# Altium footprint library MOUNTING_HOLE.PcbLib: 6 footprints
Each footprint in its own frame and in the unit in brackets; x right, y up, seen from the top. Pads: shape width x height; smd on the part's side, far side on the other; paste and mask are expansions set on the pad; w line width, h text height; cw(c..) or ccw(c..) is an arc to the next point about the centre after c.
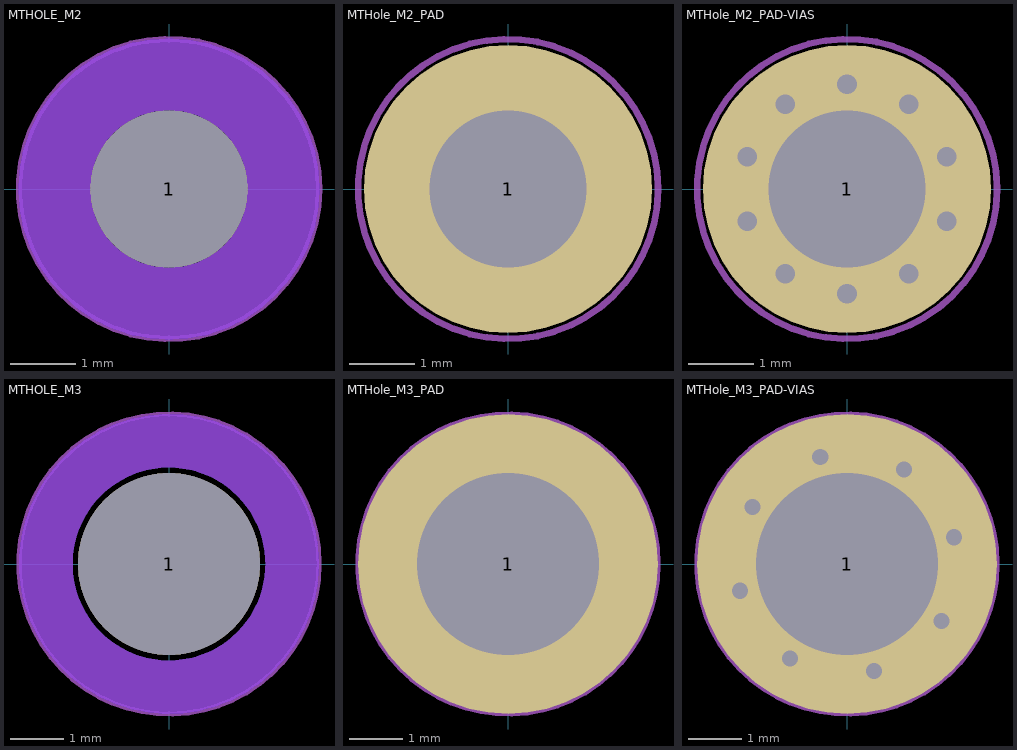
[diagram p0: the footprints below, top view; thin cyan lines are the x and y axes]

## MTHOLE_M2 [mm]
pads (1):
  round 2.4 hole 2.4 unplated: 1(0,0)
Top Layer keep-out:
  circle w1.1: c0,0 r1.75
Bottom Layer keep-out:
  circle w1.1: c0,0 r1.75
Mechanical 13:
  circle w0.1: c0,0 r2.29
Mechanical 15:
  circle w0.05: c0,0 r2.29
  lines w0.05: -0.3,0 0.3,0 ; 0,-0.3 0,0.3

## MTHole_M2_PAD [mm]
pads (1):
  round 4.4 hole 2.4: 1(0,0)
Mechanical 13:
  circle w0.1: c0,0 r2.29
Mechanical 15:
  circle w0.05: c0,0 r2.29
  lines w0.05: -0.3,0 0.3,0 ; 0,-0.3 0,0.3

## MTHole_M2_PAD-VIAS [mm]
pads (1):
  round 4.4 hole 2.4: 1(0,0)
via -0.94,-1.294 diameter 0.6 hole 0.3
via -1.522,-0.494 diameter 0.6 hole 0.3
via -1.522,0.494 diameter 0.6 hole 0.3
via -0.94,1.294 diameter 0.6 hole 0.3
via 0,1.6 diameter 0.6 hole 0.3
via 0.94,1.294 diameter 0.6 hole 0.3
via 1.522,0.494 diameter 0.6 hole 0.3
via 1.522,-0.494 diameter 0.6 hole 0.3
via 0.94,-1.294 diameter 0.6 hole 0.3
via 0,-1.6 diameter 0.6 hole 0.3
Mechanical 13:
  circle w0.1: c0,0 r2.29
Mechanical 15:
  circle w0.05: c0,0 r2.29
  lines w0.05: -0.3,0 0.3,0 ; 0,-0.3 0,0.3

## MTHOLE_M3 [mm]
pads (1):
  round 3.4 hole 3.4 unplated: 1(0,0)
Top Layer keep-out:
  circle w1: c0,0 r2.3
Bottom Layer keep-out:
  circle w1: c0,0 r2.3
Mechanical 13:
  circle w0.1: c0,0 r2.8
Mechanical 15:
  circle w0.05: c0,0 r2.8
  lines w0.05: -0.3,0 0.3,0 ; 0,-0.3 0,0.3

## MTHole_M3_PAD [mm] "Mounting hole M3."
pads (1):
  round 5.6 hole 3.4: 1(0,0)
Mechanical 13:
  circle w0.1: c0,0 r2.8
Mechanical 15:
  circle w0.05: c0,0 r2.8
  lines w0.05: -0.3,0 0.3,0 ; 0,-0.3 0,0.3

## MTHole_M3_PAD-VIAS [mm] "Mounting hole M3."
pads (1):
  round 5.6 hole 3.4: 1(0,0)
via 1.768,-1.061 diameter 0.6 hole 0.3
via 0.5,-2 diameter 0.6 hole 0.3
via -1.061,-1.768 diameter 0.6 hole 0.3
via -2,-0.5 diameter 0.6 hole 0.3
via -1.768,1.061 diameter 0.6 hole 0.3
via -0.5,2 diameter 0.6 hole 0.3
via 1.061,1.768 diameter 0.6 hole 0.3
via 2,0.5 diameter 0.6 hole 0.3
Mechanical 13:
  circle w0.1: c0,0 r2.8
Mechanical 15:
  circle w0.05: c0,0 r2.8
  lines w0.05: -0.3,0 0.3,0 ; 0,-0.3 0,0.3